# EAGLE library part 74*85 (library U-7400)
4-bit magnitude COMPARATOR
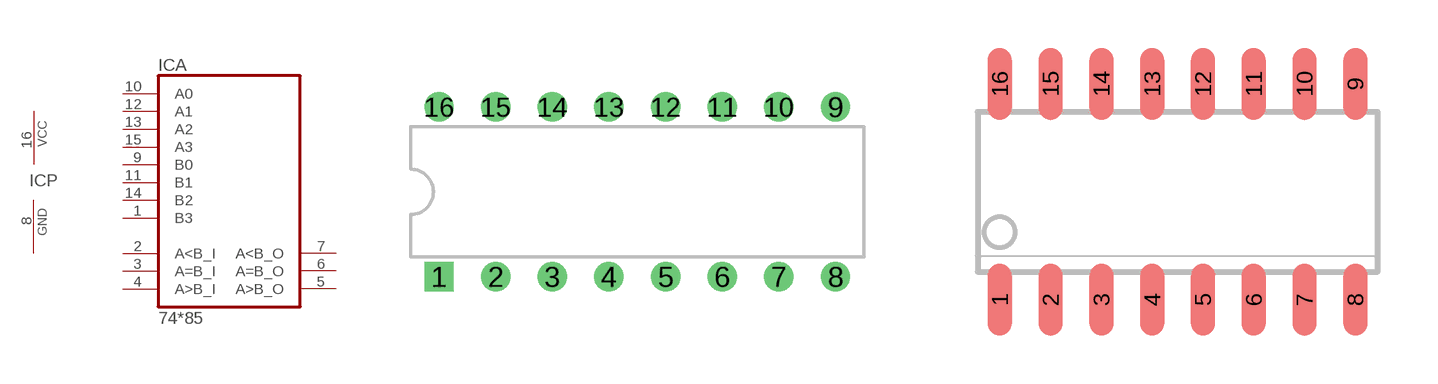
[diagram p26: symbol with the pads of 16DIP; footprints 16DIP, 16SOIC]

Designator prefix IC; gates A=7485 P=PWRN

## 7485N, 74LS85N, 74S85N  [16DIP]
1  A:B3  in
2  A:A<B_I  in
3  A:A=B_I  in
4  A:A>B_I  in
5  A:A>B_O  out
6  A:A=B_O  out
7  A:A<B_O  out
8  P:GND  pwr
9  A:B0  in
10  A:A0  in
11  A:B1  in
12  A:A1  in
13  A:A2  in
14  A:B2  in
15  A:A3  in
16  P:VCC  sup

## 74LS85D, 74S85D  [16SOIC]
Pads as for 16DIP

## 74LS85FK, 74S85FK  [LCC20]
2  A:B3  in
3  A:A<B_I  in
4  A:A=B_I  in
5  A:A>B_I  in
7  A:A>B_O  out
8  A:A=B_O  out
9  A:A<B_O  out
10  P:GND  pwr
12  A:B0  in
13  A:A0  in
14  A:B1  in
15  A:A1  in
17  A:A2  in
18  A:B2  in
19  A:A3  in
20  P:VCC  sup

## Footprint 16DIP (pad centres in mm)
16 position Dual In-line Package
drill 0.813 square: 1 -8.89,-3.81
drill 0.813: 2 -6.35,-3.81; 3 -3.81,-3.81; 4 -1.27,-3.81; 5 1.27,-3.81; 6 3.81,-3.81; 7 6.35,-3.81; 8 8.89,-3.81; 9 8.89,3.81; 10 6.35,3.81; 11 3.81,3.81; 12 1.27,3.81; 13 -1.27,3.81; 14 -3.81,3.81; 15 -6.35,3.81; 16 -8.89,3.81

## Footprint 16SOIC (pad centres in mm)
Small Outline (SO/SOIC) package 1.27mm [50 mil] pitch, 4mm wide body, 6.2mm wide pin-pin, 10mm long e.g. 74HC151 [TI,SN74HC151D] LOGIC 8TO1 MUX 16SOIC
smd 0.6 x 1.8: 1 -4.445,-2.7; 2 -3.175,-2.7; 3 -1.905,-2.7; 4 -0.635,-2.7; 5 0.635,-2.7; 6 1.905,-2.7; 7 3.175,-2.7; 8 4.445,-2.7; 9 4.445,2.7; 10 3.175,2.7; 11 1.905,2.7; 12 0.635,2.7; 13 -0.635,2.7; 14 -1.905,2.7; 15 -3.175,2.7; 16 -4.445,2.7

## Footprint LCC20 (pad centres in mm)
Leadless Chip Carrier Ceramic Package
smd 0.8 x 3.4: 1 0,3.8
smd 0.8 x 2: 2 -1.27,4.5; 3 -2.54,4.5; 9 -2.54,-4.5; 10 -1.27,-4.5; 11 0,-4.5; 12 1.27,-4.5; 13 2.54,-4.5; 19 2.54,4.5; 20 1.27,4.5
smd 2 x 0.8: 4 -4.5,2.54; 5 -4.5,1.27; 6 -4.5,0; 7 -4.5,-1.27; 8 -4.5,-2.54; 14 4.5,-2.54; 15 4.5,-1.27; 16 4.5,0; 17 4.5,1.27; 18 4.5,2.54